# Altium integrated library IR2101.IntLib: 1 symbol
Pins are listed as number, name and electrical type; pins without a type are passive.

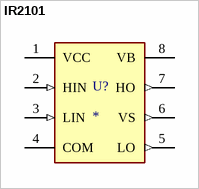
[diagram p0: symbol IR2101]

## IR2101
designator U?
Half-Bridge Gate Driver IC Non-Inverting 8-PDIP; MF: Infineon; MP: IR2101; Purchase-URL: https://pricing.snapeda.com/search/part/IR2101/?ref=eda; Package: DIP-8 International Rectifier; Check_prices: https://www.snapeda.com/parts/IR2101/Infineon+Technologies/view-part/?ref=eda; Value: *; SnapEDA_Link: https://www.snapeda.com/parts/IR2101/Infineon+Technologies/view-part/?ref=snap; Digi-Key_Part_Number: IR2101-ND
footprint DIL08
pins: 1 VCC (power), 2 HIN (in), 3 LIN (in), 4 COM (power), 5 LO (out), 6 VS (out), 7 HO (out), 8 VB (power)